# Altium footprint library RS_BT_Audio.PcbLib: 1 footprints
Each footprint in its own frame and in the unit in brackets; x right, y up, seen from the top. Pads: shape width x height; smd on the part's side, far side on the other; paste and mask are expansions set on the pad; w line width, h text height; cw(c..) or ccw(c..) is an arc to the next point about the centre after c.
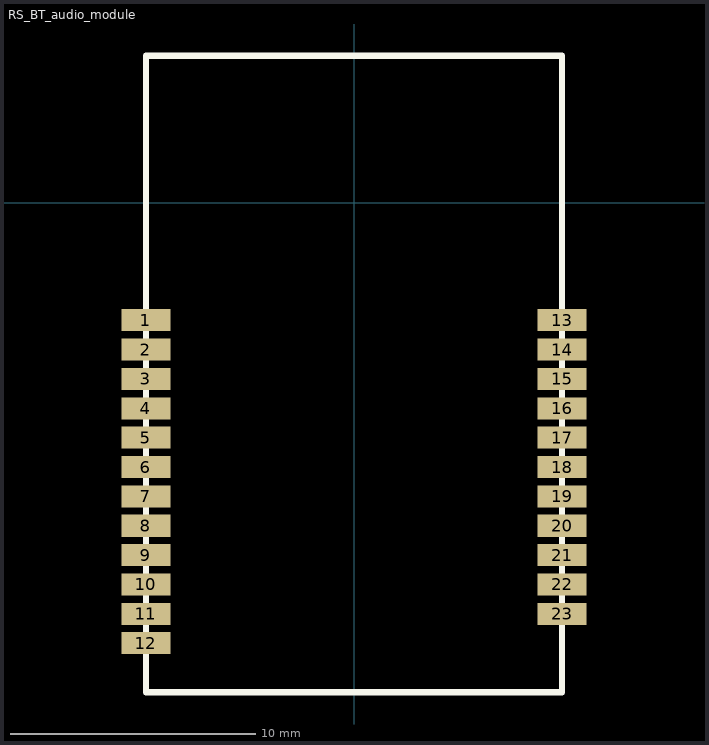
[diagram p0: the footprint, top view; thin cyan lines are the x and y axes]

## RS_BT_audio_module [mm]
height 2
pads (23):
  rect 2x0.9 smd: 1(-8.5,-4.8) 2(-8.5,-6) 3(-8.5,-7.2) 4(-8.5,-8.4) 5(-8.5,-9.6) 6(-8.5,-10.8) 7(-8.5,-12) 8(-8.5,-13.2) 9(-8.5,-14.4) 10(-8.5,-15.6) 11(-8.5,-16.8) 12(-8.5,-18) 13(8.5,-4.8) 14(8.5,-6) 15(8.5,-7.2) 16(8.5,-8.4) 17(8.5,-9.6) 18(8.5,-10.8) 19(8.5,-12) 20(8.5,-13.2) 21(8.5,-14.4) 22(8.5,-15.6) 23(8.5,-16.8)
Top Overlay:
  lines w0.254: -8.5,-20 8.5,-20 8.5,6 -8.5,6 -8.5,-20
3D body: height 1.5, standoff 0.8, extent -6.25,-3.25 -3.75,0.25
3D body: height 1.8, standoff 0.8, extent 3.5,-19 6.5,-15
3D body: height 1.8, standoff 0.8, extent -2.5,-12.5 4.5,-5.5
3D body: height 0.8, standoff 0, extent -8.5,-20 8.5,6